# Altium schematic symbol library ABRACON CRYSTAL ABLS.SchLib: 1 symbol
Pins are listed as number, name and electrical type; pins without a type are passive.

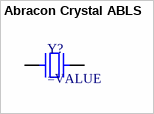
[diagram p0: symbol Abracon Crystal ABLS]

## Abracon Crystal ABLS
designator Y?
SMT Crystal
pins: 1, 2